# Altium schematic symbol library NRH3012T2R2MN.Schlib: 1 symbol
Pins are listed as number, name and electrical type; pins without a type are passive.

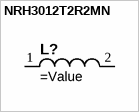
[diagram p0: symbol NRH3012T2R2MN]

## NRH3012T2R2MN
designator L?
Inductor 2.2µH 1.5A
pins: 1, 2